# Altium footprint library Packaging.PcbLib: 5 footprints
Each footprint in its own frame and in the unit in brackets; x right, y up, seen from the top. Pads: shape width x height; smd on the part's side, far side on the other; paste and mask are expansions set on the pad; w line width, h text height; cw(c..) or ccw(c..) is an arc to the next point about the centre after c.
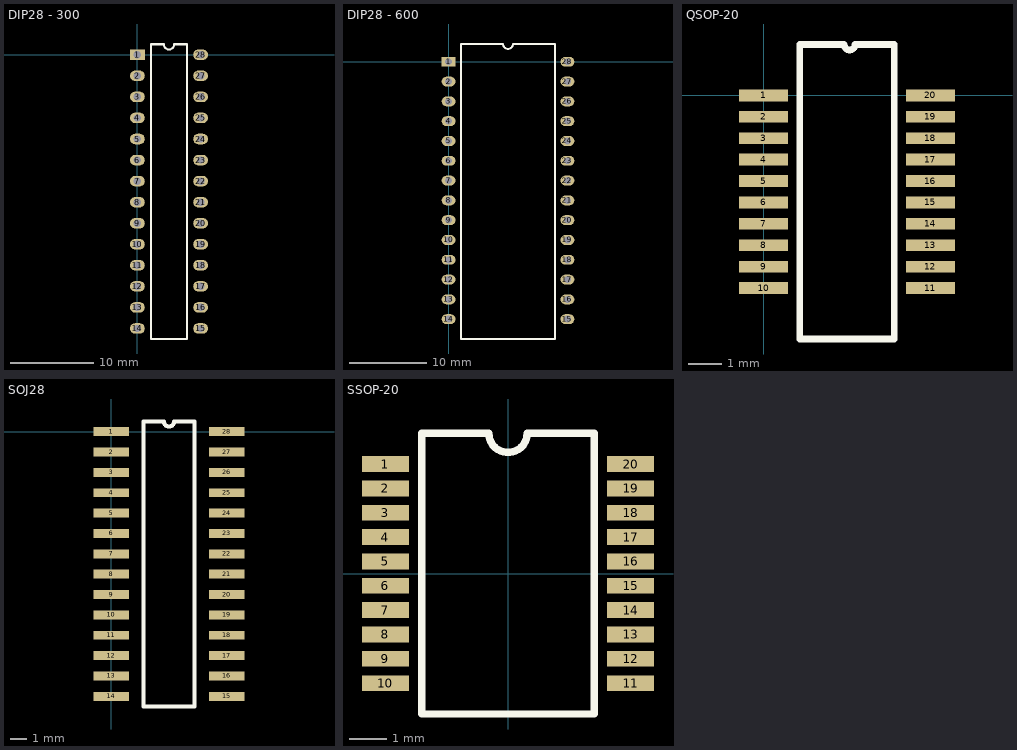
[diagram p0: the footprints below, top view; thin cyan lines are the x and y axes]

## DIP28 - 300 [mil]
pads (28):
  rect 70x50 hole 35: 1(0,0)
  oval 70x50 hole 35: 2(0,-100) 3(0,-200) 4(0,-300) 5(0,-400) 6(0,-500) 7(0,-600) 8(0,-700) 9(0,-800) 10(0,-900) 11(0,-1000) 12(0,-1100) 13(0,-1200) 14(0,-1300) 15(300,-1300) 16(300,-1200) 17(300,-1100) 18(300,-1000) 19(300,-900) 20(300,-800) 21(300,-700) 22(300,-600) 23(300,-500) 24(300,-400) 25(300,-300) 26(300,-200) 27(300,-100) 28(300,0)
Top Overlay:
  lines w10: 65,-1350 65,50 125,50 ccw(c150,50) 175,50 235,50 235,-1350 65,-1350
3D body: height 0, standoff -125, extent 295,-1007.5 305,-992.5
3D body: height 50, standoff 0, extent 295,-1025 305,-975
3D body: height 50, standoff 40, extent 275,-1025 295,-975
3D body: height 0, standoff -125, extent 295,-1107.5 305,-1092.5
3D body: height 50, standoff 0, extent 295,-1125 305,-1075
3D body: height 50, standoff 40, extent 275,-1125 295,-1075
3D body: height 0, standoff -125, extent 295,-1207.5 305,-1192.5
3D body: height 50, standoff 0, extent 295,-1225 305,-1175
3D body: height 50, standoff 40, extent 275,-1225 295,-1175
3D body: height 0, standoff -125, extent 295,-1307.5 305,-1292.5
3D body: height 50, standoff 0, extent 295,-1325 305,-1275
3D body: height 50, standoff 40, extent 275,-1325 295,-1275
3D body: height 0, standoff -125, extent -5,-1307.5 5,-1292.5
3D body: height 50, standoff 0, extent -5,-1325 5,-1275
3D body: height 50, standoff 40, extent 5,-1325 25,-1275
3D body: height 0, standoff -125, extent -5,-1207.5 5,-1192.5
3D body: height 50, standoff 0, extent -5,-1225 5,-1175
3D body: height 50, standoff 40, extent 5,-1225 25,-1175
3D body: height 0, standoff -125, extent -5,-1107.5 5,-1092.5
3D body: height 50, standoff 0, extent -5,-1125 5,-1075
3D body: height 50, standoff 40, extent 5,-1125 25,-1075
3D body: height 0, standoff -125, extent -5,-1007.5 5,-992.5
3D body: height 50, standoff 0, extent -5,-1025 5,-975
3D body: height 50, standoff 40, extent 5,-1025 25,-975
3D body: height 100, standoff 15, extent 25,-1350 275,50.04
3D body: height 50, standoff 40, extent 5,-25 25,25
3D body: height 50, standoff 0, extent -5,-25 5,25
3D body: height 0, standoff -125, extent -5,-7.5 5,7.5
3D body: height 50, standoff 40, extent 5,-125 25,-75
3D body: height 50, standoff 0, extent -5,-125 5,-75
3D body: height 0, standoff -125, extent -5,-107.5 5,-92.5
3D body: height 50, standoff 40, extent 5,-225 25,-175
3D body: height 50, standoff 0, extent -5,-225 5,-175
3D body: height 0, standoff -125, extent -5,-207.5 5,-192.5
3D body: height 50, standoff 40, extent 5,-325 25,-275
3D body: height 50, standoff 0, extent -5,-325 5,-275
3D body: height 0, standoff -125, extent -5,-307.5 5,-292.5
3D body: height 50, standoff 40, extent 5,-425 25,-375
3D body: height 50, standoff 0, extent -5,-425 5,-375
3D body: height 0, standoff -125, extent -5,-407.5 5,-392.5
3D body: height 50, standoff 40, extent 5,-525 25,-475
3D body: height 50, standoff 0, extent -5,-525 5,-475
3D body: height 0, standoff -125, extent -5,-507.5 5,-492.5
3D body: height 50, standoff 40, extent 5,-625 25,-575
3D body: height 50, standoff 0, extent -5,-625 5,-575
3D body: height 0, standoff -125, extent -5,-607.5 5,-592.5
3D body: height 50, standoff 40, extent 5,-725 25,-675
3D body: height 50, standoff 0, extent -5,-725 5,-675
3D body: height 0, standoff -125, extent -5,-707.5 5,-692.5
3D body: height 50, standoff 40, extent 5,-825 25,-775
3D body: height 50, standoff 0, extent -5,-825 5,-775
3D body: height 0, standoff -125, extent -5,-807.5 5,-792.5
3D body: height 50, standoff 40, extent 5,-925 25,-875
3D body: height 50, standoff 0, extent -5,-925 5,-875
3D body: height 0, standoff -125, extent -5,-907.5 5,-892.5
3D body: height 50, standoff 40, extent 275,-925 295,-875
3D body: height 50, standoff 0, extent 295,-925 305,-875
3D body: height 0, standoff -125, extent 295,-907.5 305,-892.5
3D body: height 50, standoff 40, extent 275,-825 295,-775
3D body: height 50, standoff 0, extent 295,-825 305,-775
3D body: height 0, standoff -125, extent 295,-807.5 305,-792.5
3D body: height 50, standoff 40, extent 275,-725 295,-675
3D body: height 50, standoff 0, extent 295,-725 305,-675
3D body: height 0, standoff -125, extent 295,-707.5 305,-692.5
3D body: height 50, standoff 40, extent 275,-625 295,-575
3D body: height 50, standoff 0, extent 295,-625 305,-575
3D body: height 0, standoff -125, extent 295,-607.5 305,-592.5
3D body: height 50, standoff 40, extent 275,-525 295,-475
3D body: height 50, standoff 0, extent 295,-525 305,-475
3D body: height 0, standoff -125, extent 295,-507.5 305,-492.5
3D body: height 50, standoff 40, extent 275,-425 295,-375
3D body: height 50, standoff 0, extent 295,-425 305,-375
3D body: height 0, standoff -125, extent 295,-407.5 305,-392.5
3D body: height 50, standoff 40, extent 275,-325 295,-275
3D body: height 50, standoff 0, extent 295,-325 305,-275
3D body: height 0, standoff -125, extent 295,-307.5 305,-292.5
3D body: height 50, standoff 40, extent 275,-225 295,-175
3D body: height 50, standoff 0, extent 295,-225 305,-175
3D body: height 0, standoff -125, extent 295,-207.5 305,-192.5
3D body: height 50, standoff 40, extent 275,-125 295,-75
3D body: height 50, standoff 0, extent 295,-125 305,-75
3D body: height 0, standoff -125, extent 295,-107.5 305,-92.5
3D body: height 50, standoff 40, extent 275,-25 295,25
3D body: height 50, standoff 0, extent 295,-25 305,25
3D body: height 0, standoff -125, extent 295,-7.5 305,7.5

## DIP28 - 600 [mil]
pads (28):
  rect 70x50 hole 35: 1(0,0)
  oval 70x50 hole 35: 2(0,-100) 3(0,-200) 4(0,-300) 5(0,-400) 6(0,-500) 7(0,-600) 8(0,-700) 9(0,-800) 10(0,-900) 11(0,-1000) 12(0,-1100) 13(0,-1200) 14(0,-1300) 15(600,-1300) 16(600,-1200) 17(600,-1100) 18(600,-1000) 19(600,-900) 20(600,-800) 21(600,-700) 22(600,-600) 23(600,-500) 24(600,-400) 25(600,-300) 26(600,-200) 27(600,-100) 28(600,0)
Top Overlay:
  lines w10: 63.78,-1400 536.22,-1400 536.22,90 325,90 cw(c300,90) 275,90 63.78,90 63.78,-1400
3D body: height 100, standoff 15, extent 25,-1400 575,90.09
3D body: height 50, standoff 40, extent 5,-25 25,25
3D body: height 50, standoff 0, extent -5,-25 5,25
3D body: height 0, standoff -125, extent -5,-7.5 5,7.5
3D body: height 50, standoff 40, extent 5,-125 25,-75
3D body: height 50, standoff 0, extent -5,-125 5,-75
3D body: height 0, standoff -125, extent -5,-107.5 5,-92.5
3D body: height 50, standoff 40, extent 5,-225 25,-175
3D body: height 50, standoff 0, extent -5,-225 5,-175
3D body: height 0, standoff -125, extent -5,-207.5 5,-192.5
3D body: height 50, standoff 40, extent 5,-325 25,-275
3D body: height 50, standoff 0, extent -5,-325 5,-275
3D body: height 0, standoff -125, extent -5,-307.5 5,-292.5
3D body: height 50, standoff 40, extent 5,-425 25,-375
3D body: height 50, standoff 0, extent -5,-425 5,-375
3D body: height 0, standoff -125, extent -5,-407.5 5,-392.5
3D body: height 50, standoff 40, extent 5,-525 25,-475
3D body: height 50, standoff 0, extent -5,-525 5,-475
3D body: height 0, standoff -125, extent -5,-507.5 5,-492.5
3D body: height 50, standoff 40, extent 5,-625 25,-575
3D body: height 50, standoff 0, extent -5,-625 5,-575
3D body: height 0, standoff -125, extent -5,-607.5 5,-592.5
3D body: height 50, standoff 40, extent 5,-725 25,-675
3D body: height 50, standoff 0, extent -5,-725 5,-675
3D body: height 0, standoff -125, extent -5,-707.5 5,-692.5
3D body: height 50, standoff 40, extent 5,-825 25,-775
3D body: height 50, standoff 0, extent -5,-825 5,-775
3D body: height 0, standoff -125, extent -5,-807.5 5,-792.5
3D body: height 50, standoff 40, extent 5,-925 25,-875
3D body: height 50, standoff 0, extent -5,-925 5,-875
3D body: height 0, standoff -125, extent -5,-907.5 5,-892.5
3D body: height 50, standoff 40, extent 5,-1025 25,-975
3D body: height 50, standoff 0, extent -5,-1025 5,-975
3D body: height 0, standoff -125, extent -5,-1007.5 5,-992.5
3D body: height 50, standoff 40, extent 5,-1125 25,-1075
3D body: height 50, standoff 0, extent -5,-1125 5,-1075
3D body: height 0, standoff -125, extent -5,-1107.5 5,-1092.5
3D body: height 50, standoff 40, extent 5,-1225 25,-1175
3D body: height 50, standoff 0, extent -5,-1225 5,-1175
3D body: height 0, standoff -125, extent -5,-1207.5 5,-1192.5
3D body: height 50, standoff 40, extent 5,-1325 25,-1275
3D body: height 50, standoff 0, extent -5,-1325 5,-1275
3D body: height 0, standoff -125, extent -5,-1307.5 5,-1292.5
3D body: height 50, standoff 40, extent 575,-1325 595,-1275
3D body: height 50, standoff 0, extent 595,-1325 605,-1275
3D body: height 0, standoff -125, extent 595,-1307.5 605,-1292.5
3D body: height 50, standoff 40, extent 575,-1225 595,-1175
3D body: height 50, standoff 0, extent 595,-1225 605,-1175
3D body: height 0, standoff -125, extent 595,-1207.5 605,-1192.5
3D body: height 50, standoff 40, extent 575,-1125 595,-1075
3D body: height 50, standoff 0, extent 595,-1125 605,-1075
3D body: height 0, standoff -125, extent 595,-1107.5 605,-1092.5
3D body: height 50, standoff 40, extent 575,-1025 595,-975
3D body: height 50, standoff 0, extent 595,-1025 605,-975
3D body: height 0, standoff -125, extent 595,-1007.5 605,-992.5
3D body: height 50, standoff 40, extent 575,-925 595,-875
3D body: height 50, standoff 0, extent 595,-925 605,-875
3D body: height 0, standoff -125, extent 595,-907.5 605,-892.5
3D body: height 50, standoff 40, extent 575,-825 595,-775
3D body: height 50, standoff 0, extent 595,-825 605,-775
3D body: height 0, standoff -125, extent 595,-807.5 605,-792.5
3D body: height 50, standoff 40, extent 575,-725 595,-675
3D body: height 50, standoff 0, extent 595,-725 605,-675
3D body: height 0, standoff -125, extent 595,-707.5 605,-692.5
3D body: height 50, standoff 40, extent 575,-625 595,-575
3D body: height 50, standoff 0, extent 595,-625 605,-575
3D body: height 0, standoff -125, extent 595,-607.5 605,-592.5
3D body: height 50, standoff 40, extent 575,-525 595,-475
3D body: height 50, standoff 0, extent 595,-525 605,-475
3D body: height 0, standoff -125, extent 595,-507.5 605,-492.5
3D body: height 50, standoff 40, extent 575,-425 595,-375
3D body: height 50, standoff 0, extent 595,-425 605,-375
3D body: height 0, standoff -125, extent 595,-407.5 605,-392.5
3D body: height 50, standoff 40, extent 575,-325 595,-275
3D body: height 50, standoff 0, extent 595,-325 605,-275
3D body: height 0, standoff -125, extent 595,-307.5 605,-292.5
3D body: height 50, standoff 40, extent 575,-225 595,-175
3D body: height 50, standoff 0, extent 595,-225 605,-175
3D body: height 0, standoff -125, extent 595,-207.5 605,-192.5
3D body: height 50, standoff 40, extent 575,-125 595,-75
3D body: height 50, standoff 0, extent 595,-125 605,-75
3D body: height 0, standoff -125, extent 595,-107.5 605,-92.5
3D body: height 50, standoff 40, extent 575,-25 595,25
3D body: height 50, standoff 0, extent 595,-25 605,25
3D body: height 0, standoff -125, extent 595,-7.5 605,7.5

## QSOP-20 [mm]
pads (20):
  rect 1.45x0.35 smd: 1(0,0) 2(0,-0.635) 3(0,-1.27) 4(0,-1.905) 5(0,-2.54) 6(0,-3.175) 7(0,-3.81) 8(0,-4.445) 9(0,-5.08) 10(0,-5.715) 11(4.95,-5.715) 12(4.95,-5.08) 13(4.95,-4.445) 14(4.95,-3.81) 15(4.95,-3.175) 16(4.95,-2.54) 17(4.95,-1.905) 18(4.95,-1.27) 19(4.95,-0.635) 20(4.95,0)
Top Overlay:
  lines w0.2: 1.075,-7.226 3.875,-7.226 3.875,1.511 2.714,1.511 cw(c2.551,1.511) 2.389,1.511 1.075,1.511 1.075,-7.226
3D body: height 0.86, standoff 0, extent 4.475,-0.15 5.475,0.15
3D body: height 0.86, standoff 0, extent 4.475,-0.785 5.475,-0.485
3D body: height 0.86, standoff 0, extent 4.475,-1.42 5.475,-1.12
3D body: height 0.86, standoff 0, extent 4.475,-2.055 5.475,-1.755
3D body: height 0.86, standoff 0, extent 4.475,-2.69 5.475,-2.39
3D body: height 0.86, standoff 0, extent 4.475,-3.325 5.475,-3.025
3D body: height 0.86, standoff 0, extent 4.475,-3.96 5.475,-3.66
3D body: height 0.86, standoff 0, extent 4.475,-4.595 5.475,-4.295
3D body: height 0.86, standoff 0, extent 4.475,-5.23 5.475,-4.93
3D body: height 0.86, standoff 0, extent 4.475,-5.865 5.475,-5.565
3D body: height 0.86, standoff 0, extent -0.525,-5.865 0.475,-5.565
3D body: height 0.86, standoff 0, extent -0.525,-5.23 0.475,-4.93
3D body: height 0.86, standoff 0, extent -0.525,-4.595 0.475,-4.295
3D body: height 0.86, standoff 0, extent -0.525,-3.96 0.475,-3.66
3D body: height 0.86, standoff 0, extent -0.525,-3.325 0.475,-3.025
3D body: height 0.86, standoff 0, extent -0.525,-2.69 0.475,-2.39
3D body: height 0.86, standoff 0, extent -0.525,-2.055 0.475,-1.755
3D body: height 0.86, standoff 0, extent -0.525,-1.42 0.475,-1.12
3D body: height 0.86, standoff 0, extent -0.525,-0.785 0.475,-0.485
3D body: height 0.86, standoff 0, extent -0.525,-0.15 0.475,0.15
3D body: height 1.73, standoff 0.25, extent 0.475,-7.233 4.475,1.518

## SOJ28 [mil]
pads (28):
  rect 87x22 smd: 1(0,0) 2(0,-50) 3(0,-100) 4(0,-150) 5(0,-200) 6(0,-250) 7(0,-300) 8(0,-350) 9(0,-400) 10(0,-450) 11(0,-500) 12(0,-550) 13(0,-600) 14(0,-650) 15(283,-650) 16(283,-600) 17(283,-550) 18(283,-500) 19(283,-450) 20(283,-400) 21(283,-350) 22(283,-300) 23(283,-250) 24(283,-200) 25(283,-150) 26(283,-100) 27(283,-50) 28(283,0)
Top Overlay:
  lines w10: 78.5,-675 78.5,25 129,25 ccw(c141.5,25) 154,25 204.5,25 204.5,-675 78.5,-675
3D body: height 88, standoff 0, extent 291.5,-15 301.5,15
3D body: height 10, standoff 0, extent 241.5,-15 291.5,15
3D body: height 88, standoff 0, extent 291.5,-65 301.5,-35
3D body: height 10, standoff 0, extent 241.5,-65 291.5,-35
3D body: height 88, standoff 0, extent 291.5,-115 301.5,-85
3D body: height 10, standoff 0, extent 241.5,-115 291.5,-85
3D body: height 88, standoff 0, extent 291.5,-165 301.5,-135
3D body: height 10, standoff 0, extent 241.5,-165 291.5,-135
3D body: height 88, standoff 0, extent 291.5,-215 301.5,-185
3D body: height 10, standoff 0, extent 241.5,-215 291.5,-185
3D body: height 88, standoff 0, extent 291.5,-265 301.5,-235
3D body: height 10, standoff 0, extent 241.5,-265 291.5,-235
3D body: height 88, standoff 0, extent 291.5,-315 301.5,-285
3D body: height 10, standoff 0, extent 241.5,-315 291.5,-285
3D body: height 88, standoff 0, extent 291.5,-365 301.5,-335
3D body: height 10, standoff 0, extent 241.5,-365 291.5,-335
3D body: height 88, standoff 0, extent 291.5,-415 301.5,-385
3D body: height 10, standoff 0, extent 241.5,-415 291.5,-385
3D body: height 88, standoff 0, extent 291.5,-465 301.5,-435
3D body: height 10, standoff 0, extent 241.5,-465 291.5,-435
3D body: height 88, standoff 0, extent 291.5,-515 301.5,-485
3D body: height 10, standoff 0, extent 241.5,-515 291.5,-485
3D body: height 88, standoff 0, extent 291.5,-565 301.5,-535
3D body: height 10, standoff 0, extent 241.5,-565 291.5,-535
3D body: height 88, standoff 0, extent 291.5,-615 301.5,-585
3D body: height 10, standoff 0, extent 241.5,-615 291.5,-585
3D body: height 88, standoff 0, extent 291.5,-665 301.5,-635
3D body: height 10, standoff 0, extent 241.5,-665 291.5,-635
3D body: height 88, standoff 0, extent -18.5,-665 -8.5,-635
3D body: height 10, standoff 0, extent -8.5,-665 41.5,-635
3D body: height 88, standoff 0, extent -18.5,-615 -8.5,-585
3D body: height 10, standoff 0, extent -8.5,-615 41.5,-585
3D body: height 88, standoff 0, extent -18.5,-565 -8.5,-535
3D body: height 10, standoff 0, extent -8.5,-565 41.5,-535
3D body: height 88, standoff 0, extent -18.5,-515 -8.5,-485
3D body: height 10, standoff 0, extent -8.5,-515 41.5,-485
3D body: height 88, standoff 0, extent -18.5,-465 -8.5,-435
3D body: height 10, standoff 0, extent -8.5,-465 41.5,-435
3D body: height 88, standoff 0, extent -18.5,-415 -8.5,-385
3D body: height 10, standoff 0, extent -8.5,-415 41.5,-385
3D body: height 88, standoff 0, extent -18.5,-365 -8.5,-335
3D body: height 10, standoff 0, extent -8.5,-365 41.5,-335
3D body: height 88, standoff 0, extent -18.5,-315 -8.5,-285
3D body: height 10, standoff 0, extent -8.5,-315 41.5,-285
3D body: height 88, standoff 0, extent -18.5,-265 -8.5,-235
3D body: height 10, standoff 0, extent -8.5,-265 41.5,-235
3D body: height 88, standoff 0, extent -18.5,-215 -8.5,-185
3D body: height 10, standoff 0, extent -8.5,-215 41.5,-185
3D body: height 88, standoff 0, extent -18.5,-165 -8.5,-135
3D body: height 10, standoff 0, extent -8.5,-165 41.5,-135
3D body: height 88, standoff 0, extent -18.5,-115 -8.5,-85
3D body: height 10, standoff 0, extent -8.5,-115 41.5,-85
3D body: height 88, standoff 0, extent -18.5,-65 -8.5,-35
3D body: height 10, standoff 0, extent -8.5,-65 41.5,-35
3D body: height 10, standoff 0, extent -8.5,-15 41.5,15
3D body: height 139, standoff 25, extent -8.5,-675.02 291.5,25.05
3D body: height 88, standoff 0, extent -18.5,-15 -8.5,15

## SSOP-20 [mm]
pads (20):
  rect 1.25x0.42 smd: 1(-3.275,2.925) 2(-3.275,2.275) 3(-3.275,1.625) 4(-3.275,0.975) 5(-3.275,0.325) 6(-3.275,-0.325) 7(-3.275,-0.975) 8(-3.275,-1.625) 9(-3.275,-2.275) 10(-3.275,-2.925) 11(3.275,-2.925) 12(3.275,-2.275) 13(3.275,-1.625) 14(3.275,-0.975) 15(3.275,-0.325) 16(3.275,0.325) 17(3.275,0.975) 18(3.275,1.625) 19(3.275,2.275) 20(3.275,2.925)
Top Overlay:
  lines w0.2: -0.525,3.75 -2.3,3.75 -2.3,-3.75 2.3,-3.75 2.3,3.75 0.513,3.75 cw(c0,3.75) -0.513,3.75
3D body: height 2, standoff 0.05, extent -2.8,-3.75 2.8,3.75
3D body: height 1, standoff 0, extent -3.8,2.738 -2.8,3.113
3D body: height 1, standoff 0, extent -3.8,2.088 -2.8,2.463
3D body: height 1, standoff 0, extent -3.8,1.438 -2.8,1.813
3D body: height 1, standoff 0, extent -3.8,0.788 -2.8,1.163
3D body: height 1, standoff 0, extent -3.8,0.138 -2.8,0.513
3D body: height 1, standoff 0, extent -3.8,-0.513 -2.8,-0.138
3D body: height 1, standoff 0, extent -3.8,-1.163 -2.8,-0.788
3D body: height 1, standoff 0, extent -3.8,-1.813 -2.8,-1.438
3D body: height 1, standoff 0, extent -3.8,-2.463 -2.8,-2.088
3D body: height 1, standoff 0, extent -3.8,-3.113 -2.8,-2.738
3D body: height 1, standoff 0, extent 2.8,-3.113 3.8,-2.738
3D body: height 1, standoff 0, extent 2.8,-2.463 3.8,-2.088
3D body: height 1, standoff 0, extent 2.8,-1.813 3.8,-1.438
3D body: height 1, standoff 0, extent 2.8,-1.163 3.8,-0.788
3D body: height 1, standoff 0, extent 2.8,-0.513 3.8,-0.138
3D body: height 1, standoff 0, extent 2.8,0.138 3.8,0.513
3D body: height 1, standoff 0, extent 2.8,0.788 3.8,1.163
3D body: height 1, standoff 0, extent 2.8,1.438 3.8,1.813
3D body: height 1, standoff 0, extent 2.8,2.088 3.8,2.463
3D body: height 1, standoff 0, extent 2.8,2.738 3.8,3.113